# Altium footprint library Terminal Blocks.PcbLib: 3 footprints
Each footprint in its own frame and in the unit in brackets; x right, y up, seen from the top. Pads: shape width x height; smd on the part's side, far side on the other; paste and mask are expansions set on the pad; w line width, h text height; cw(c..) or ccw(c..) is an arc to the next point about the centre after c.
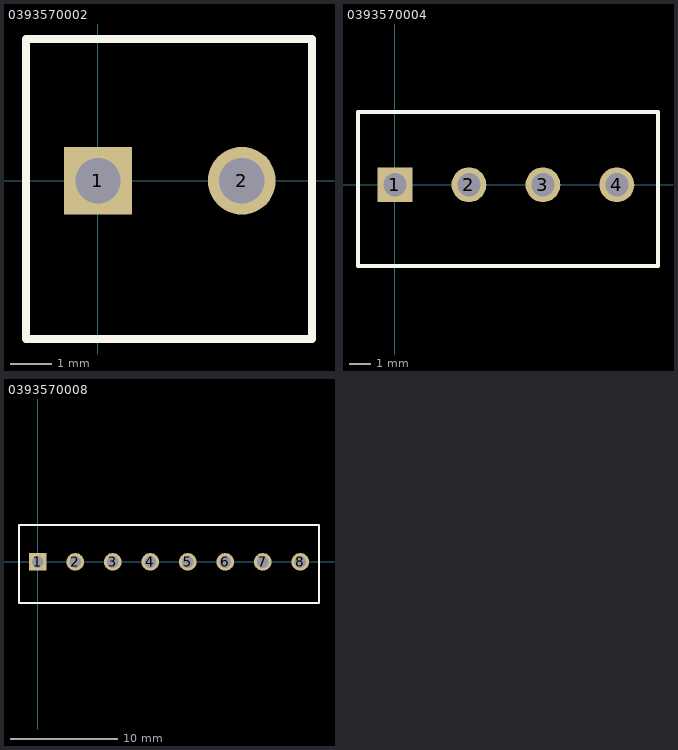
[diagram p0: the footprints below, top view; thin cyan lines are the x and y axes]

## 0393570002 [mm] "TERM BLK 8POS SIDE ENT 3.5MM PCB"
pads (2):
  rect 1.65x1.65 hole 1.1: 1(0,0)
  round 1.65 hole 1.1: 2(3.5,0)
Top Overlay:
  lines w0.2: -1.75,-3.85 -1.75,3.45 5.207,3.45 5.207,-3.85 -1.75,-3.85
3D body "0393570002.stp": height 8.51, standoff -3.51, extent -0.145,-3.556 7.145,3.556

## 0393570004 [mm] "TERM BLK 8POS SIDE ENT 3.5MM PCB"
pads (4):
  rect 1.65x1.65 hole 1.1: 1(0,0)
  round 1.65 hole 1.1: 2(3.5,0) 3(7,0) 4(10.5,0)
Top Overlay:
  lines w0.2: -1.75,-3.85 12.446,-3.85 12.446,3.45 -1.75,3.45 -1.75,-3.85
3D body "0393570004.stp": height 8.51, standoff -3.51, extent -1.524,-1.359 12.446,5.931

## 0393570008 [mm] "TERM BLK 8POS SIDE ENT 3.5MM PCB"
pads (8):
  rect 1.65x1.65 hole 1.1: 1(0,0)
  round 1.65 hole 1.1: 2(3.5,0) 3(7,0) 4(10.5,0) 5(14,0) 6(17.5,0) 7(21,0) 8(24.5,0)
Top Overlay:
  lines w0.2: -1.75,-3.85 -1.75,3.45 26.25,3.45 26.25,-3.85 -1.75,-3.85
3D body "393570008.stp": height 8.51, standoff -3.51, extent -1.72,-3.845 26.22,3.445